# Altium schematic symbol library DiodeSS32.SchLib: 1 symbol
Pins are listed as number, name and electrical type; pins without a type are passive.

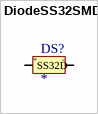
[diagram p0: symbol DiodeSS32SMD]

## DiodeSS32SMD
designator DS?
footprint DiodeSS32SMD
pins: 0 +, 1 -
text: SS32D